# Altium footprint library WE-OLTI.PcbLib: 30 footprints (part 1 of 2)
Each footprint in its own frame and in the unit in brackets; x right, y up, seen from the top. Pads: shape width x height; smd on the part's side, far side on the other; paste and mask are expansions set on the pad; w line width, h text height; cw(c..) or ccw(c..) is an arc to the next point about the centre after c.
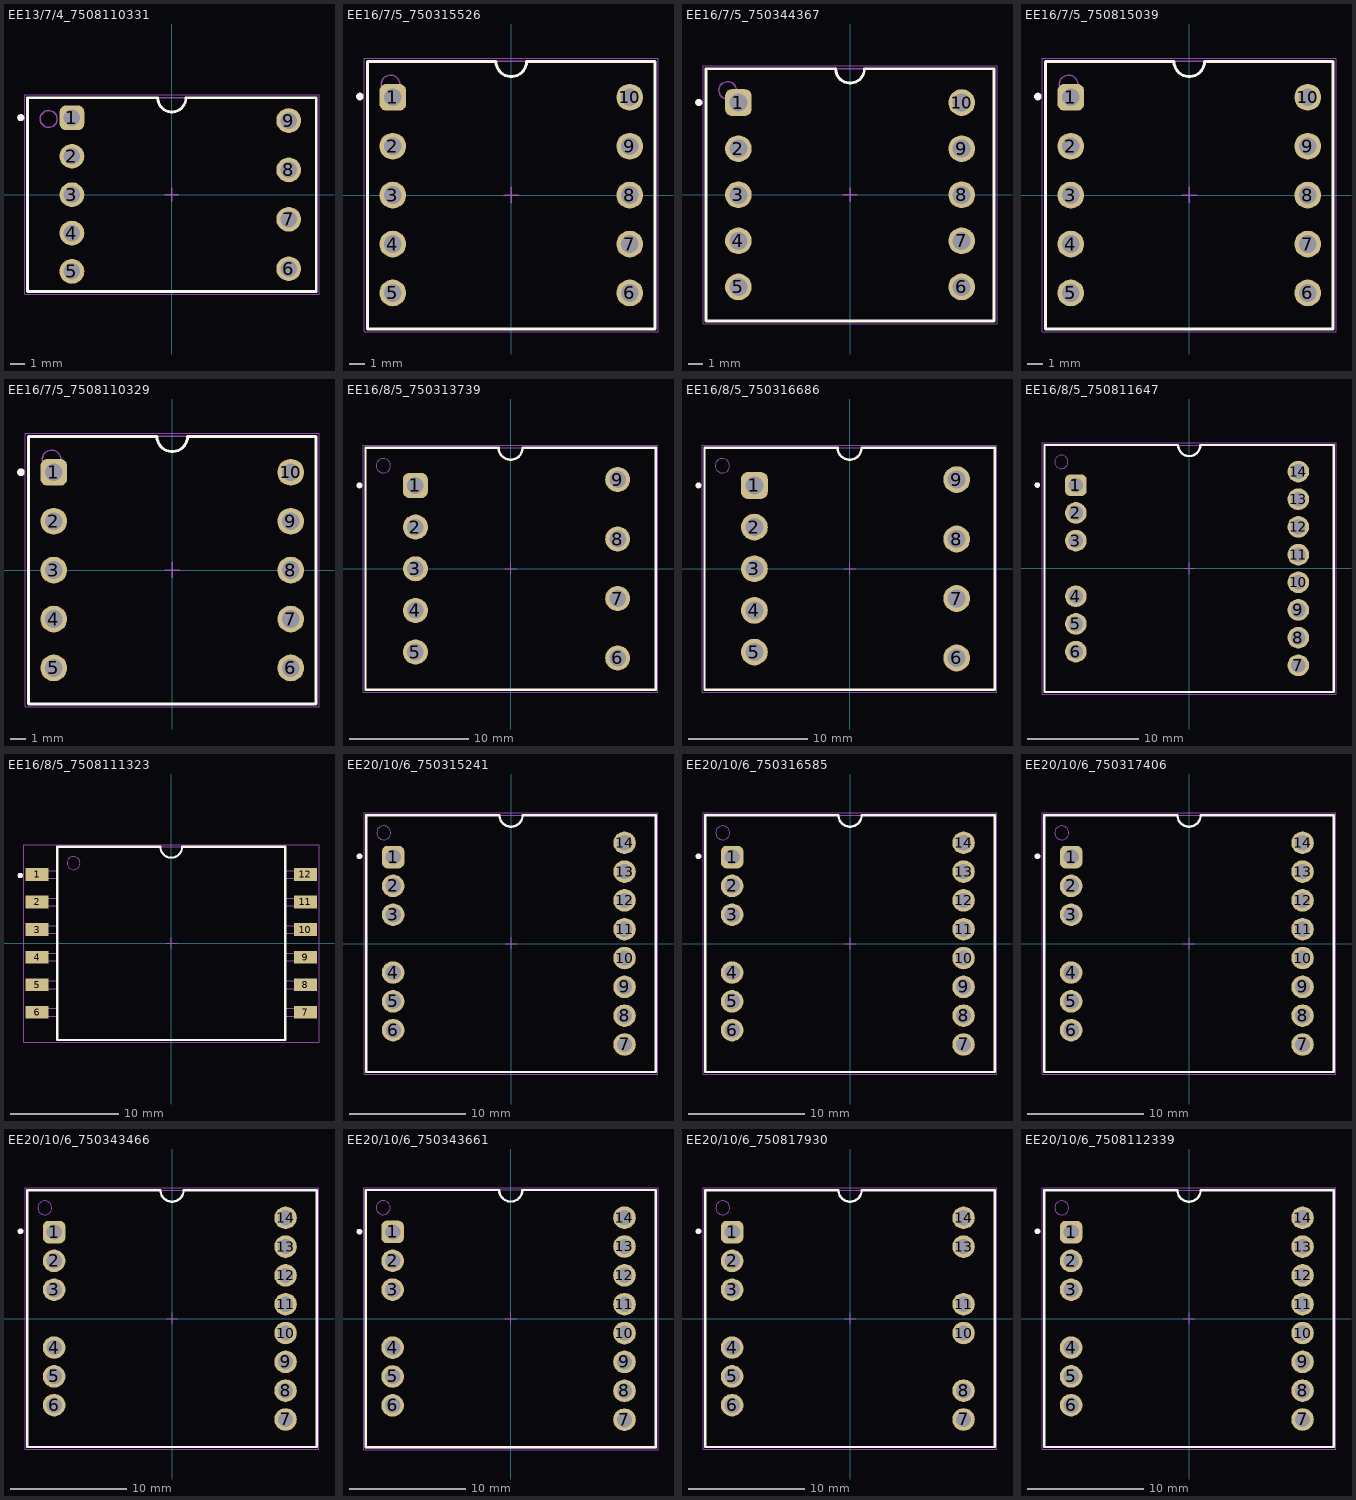
[diagram p0: the footprints below, top view; thin cyan lines are the x and y axes]

## EE13/7/4_7508110331 [mm] "Offline Flyback Transformer, EE13/7/4, THT"
height 10.54
pads (9):
  rrect50% 1.75x1.75 hole 1.17: 1(-7.075,5.44)
  round 1.75 hole 1.17: 2(-7.075,2.72) 3(-7.075,0) 4(-7.075,-2.72) 5(-7.075,-5.44) 6(8.275,-5.25) 7(8.275,-1.75) 8(8.275,1.75) 9(8.275,5.25)
Top Overlay:
  circle w0.25: c-10.7,5.45 r0.125
  lines w0.2: -10.225,-6.86 -10.225,6.86 -1,6.86 ccw(c0,6.86) 1,6.86 10.225,6.86 10.225,-6.86 -10.225,-6.86
Top Assembly:
  circle w0.1: c-8.725,5.36 r0.6
  lines w0.1: -10.225,-6.86 10.225,-6.86 10.225,6.86 -10.225,6.86 -10.225,-6.86
Top Designator:
  text ".Designator" at -3.647,-0.357 h1
Top 3D Body:
  circle w0.1: c-8.725,5.36 r0.6
  lines w0.1: -10.225,-6.86 -10.225,6.86 10.225,6.86 10.225,-6.86 -10.225,-6.86
Top Courtyard:
  lines w0.05: -10.425,-7.06 10.425,-7.06 10.425,7.06 -10.425,7.06 -10.425,-7.06
Top Component Center:
  lines w0.1: -0.5,0 0.5,0 ; 0,-0.5 0,0.5
3D body "Download_STP_070-5662_rev1.STEP": height 9.5, standoff -2.5, extent -9.75,-6.71 9.75,6.71

## EE16/7/5_750315526 [mm] "Offline Flyback Transformer, EE16/7/5, THT"
height 13.8
pads (10):
  rrect50% 1.75x1.75 hole 1.17: 1(-7.75,6.4)
  round 1.75 hole 1.17: 2(-7.75,3.2) 3(-7.75,0) 4(-7.75,-3.2) 5(-7.75,-6.4) 6(7.75,-6.4) 7(7.75,-3.2) 8(7.75,0) 9(7.75,3.2) 10(7.75,6.4)
Top Overlay:
  circle w0.25: c-9.9,6.45 r0.125
  lines w0.2: -9.4,-8.75 -9.4,8.75 -1,8.75 ccw(c0,8.75) 1,8.75 9.4,8.75 9.4,-8.75 -9.4,-8.75
Top Assembly:
  circle w0.1: c-7.9,7.25 r0.6
  lines w0.1: -9.4,-8.75 -9.4,8.75 9.4,8.75 9.4,-8.75 -9.4,-8.75
Top Designator:
  text ".Designator" at -3.647,-0.357 h1
Top 3D Body:
  circle w0.1: c-7.9,7.25 r0.6
  lines w0.1: -9.4,-8.75 9.4,-8.75 9.4,8.75 -9.4,8.75 -9.4,-8.75
Top Courtyard:
  lines w0.05: -9.6,-8.95 -9.6,8.95 9.6,8.95 9.6,-8.95 -9.6,-8.95
Top Component Center:
  lines w0.1: -0.5,0 0.5,0 ; 0,-0.5 0,0.5
3D body "Download_STP_070-5472_rev1.STEP": height 12.29, standoff -3.4, extent -9.107,-8.36 9.443,8.36

## EE16/7/5_750344367 [mm] "Offline Flyback Transformer, EE16/7/5, THT"
height 13.8
pads (10):
  rrect50% 1.85x1.85 hole 1.25: 1(-7.75,6.4)
  round 1.85 hole 1.25: 2(-7.75,3.2) 3(-7.75,0) 4(-7.75,-3.2) 5(-7.75,-6.4) 6(7.75,-6.4) 7(7.75,-3.2) 8(7.75,0) 9(7.75,3.2) 10(7.75,6.4)
Top Overlay:
  circle w0.25: c-10.5,6.4 r0.125
  lines w0.2: -10,-8.75 10,-8.75 10,8.75 1,8.75 cw(c0,8.75) -1,8.75 -10,8.75 -10,-8.75
Top Assembly:
  circle w0.1: c-8.5,7.25 r0.6
  lines w0.1: -10,-8.75 -10,8.75 10,8.75 10,-8.75 -10,-8.75
Top Designator:
  text ".Designator" at -3.647,-0.357 h1
Top 3D Body:
  circle w0.1: c-8.5,7.25 r0.6
  lines w0.1: -10,-8.75 10,-8.75 10,8.75 -10,8.75 -10,-8.75
Top Courtyard:
  lines w0.05: -10.2,-8.95 -10.2,8.95 10.2,8.95 10.2,-8.95 -10.2,-8.95
Top Component Center:
  lines w0.1: -0.5,0 0.5,0 ; 0,-0.5 0,0.5
3D body "Download_STP_070-6761_rev1.STEP": height 13.29, standoff -3.4, extent -9.385,-8.37 9.685,8.35

## EE16/7/5_750815039 [mm] "Offline Flyback Transformer, EE16/7/5, THT"
height 14.2
pads (10):
  rrect50% 1.75x1.75 hole 1.17: 1(-7.75,6.4)
  round 1.75 hole 1.17: 2(-7.75,3.2) 3(-7.75,0) 4(-7.75,-3.2) 5(-7.75,-6.4) 6(7.75,-6.4) 7(7.75,-3.2) 8(7.75,0) 9(7.75,3.2) 10(7.75,6.4)
Top Overlay:
  circle w0.25: c-9.9,6.45 r0.125
  lines w0.2: -9.4,-8.75 -9.4,8.75 -1,8.75 ccw(c0,8.75) 1,8.75 9.4,8.75 9.4,-8.75 -9.4,-8.75
Top Assembly:
  circle w0.1: c-7.9,7.25 r0.6
  lines w0.1: -9.4,-8.75 -9.4,8.75 9.4,8.75 9.4,-8.75 -9.4,-8.75
Top Designator:
  text ".Designator" at -3.647,-0.357 h1
Top 3D Body:
  circle w0.1: c-7.9,7.25 r0.6
  lines w0.1: -9.4,-8.75 9.4,-8.75 9.4,8.75 -9.4,8.75 -9.4,-8.75
Top Courtyard:
  lines w0.05: -9.6,-8.95 -9.6,8.95 9.6,8.95 9.6,-8.95 -9.6,-8.95
Top Component Center:
  lines w0.1: -0.5,0 0.5,0 ; 0,-0.5 0,0.5
3D body "Download_STP_070-5472_rev1 (2).STEP": height 12.29, standoff -3.4, extent -9.107,-8.36 9.443,8.36

## EE16/7/5_7508110329 [mm] "Offline Flyback Transformer, EE16/7/5, THT"
height 13.31
pads (10):
  rrect50% 1.75x1.75 hole 1.17: 1(-7.75,6.4)
  round 1.75 hole 1.17: 2(-7.75,3.2) 3(-7.75,0) 4(-7.75,-3.2) 5(-7.75,-6.4) 6(7.75,-6.4) 7(7.75,-3.2) 8(7.75,0) 9(7.75,3.2) 10(7.75,6.4)
Top Overlay:
  circle w0.25: c-9.9,6.4 r0.125
  lines w0.2: -9.4,-8.75 -9.4,8.75 -1,8.75 ccw(c0,8.75) 1,8.75 9.4,8.75 9.4,-8.75 -9.4,-8.75
Top Assembly:
  circle w0.1: c-7.9,7.25 r0.6
  lines w0.1: -9.4,-8.75 -9.4,8.75 9.4,8.75 9.4,-8.75 -9.4,-8.75
Top Designator:
  text ".Designator" at -3.647,-0.357 h1
Top 3D Body:
  circle w0.1: c-7.9,7.25 r0.6
  lines w0.1: -9.4,-8.75 9.4,-8.75 9.4,8.75 -9.4,8.75 -9.4,-8.75
Top Courtyard:
  lines w0.05: -9.6,-8.95 -9.6,8.95 9.6,8.95 9.6,-8.95 -9.6,-8.95
Top Component Center:
  lines w0.1: -0.5,0 0.5,0 ; 0,-0.5 0,0.5
3D body "Download_STP_070-5472_rev1 (1).STEP": height 12.29, standoff -3.4, extent -9.107,-8.36 9.443,8.36

## EE16/8/5_750313739 [mm] "Offline Flyback Transformer, EE16/8/5, THT"
height 16
pads (9):
  rrect50% 2.1x2.1 hole 1.4: 1(-8,7)
  round 2.1 hole 1.4: 2(-8,3.5) 3(-8,0) 4(-8,-3.5) 5(-8,-7) 6(9,-7.5) 7(9,-2.5) 8(9,2.5) 9(9,7.5)
Top Overlay:
  circle w0.25: c-12.7,7 r0.125
  lines w0.2: -12.19,-10.16 -12.19,10.16 -1,10.16 ccw(c0,10.16) 1,10.16 12.19,10.16 12.19,-10.16 -12.19,-10.16
Top Assembly:
  circle w0.1: c-10.69,8.66 r0.6
  lines w0.1: -12.19,-10.16 -12.19,10.16 12.19,10.16 12.19,-10.16 -12.19,-10.16
Top Designator:
  text ".Designator" at -3.647,-0.357 h1
Top 3D Body:
  circle w0.1: c-10.69,8.66 r0.6
  lines w0.1: -12.19,-10.16 12.19,-10.16 12.19,10.16 -12.19,10.16 -12.19,-10.16
Top Courtyard:
  lines w0.05: -12.39,-10.36 -12.39,10.36 12.39,10.36 12.39,-10.36 -12.39,-10.36
Top Component Center:
  lines w0.1: -0.5,0 0.5,0 ; 0,-0.5 0,0.5
3D body "Download_STP_070-5280_rev1.STEP": height 15, standoff -3.4, extent -11.845,-9.94 11.965,9.86

## EE16/8/5_750316686 [mm] "Offline Flyback Transformer, EE16/8/5, THT"
height 16
pads (9):
  rrect50% 2.25x2.25 hole 1.5: 1(-8,7)
  round 2.25 hole 1.5: 2(-8,3.5) 3(-8,0) 4(-8,-3.5) 5(-8,-7) 6(9,-7.5) 7(9,-2.5) 8(9,2.5) 9(9,7.5)
Top Overlay:
  circle w0.25: c-12.7,7 r0.125
  lines w0.2: -12.19,-10.16 12.19,-10.16 12.19,10.16 1,10.16 cw(c0,10.16) -1,10.16 -12.19,10.16 -12.19,-10.16
Top Assembly:
  circle w0.1: c-10.69,8.66 r0.6
  lines w0.1: -12.19,-10.16 12.19,-10.16 12.19,10.16 -12.19,10.16 -12.19,-10.16
Top Designator:
  text ".Designator" at -3.647,-0.357 h1
Top 3D Body:
  circle w0.1: c-10.69,8.66 r0.6
  lines w0.1: -12.19,-10.16 -12.19,10.16 12.19,10.16 12.19,-10.16 -12.19,-10.16
Top Courtyard:
  lines w0.05: -12.39,-10.36 12.39,-10.36 12.39,10.36 -12.39,10.36 -12.39,-10.36
Top Component Center:
  lines w0.1: -0.5,0 0.5,0 ; 0,-0.5 0,0.5
3D body "Download_STP_070-5280_rev1 (1).STEP": height 15, standoff -3.4, extent -11.905,-9.8 11.905,10

## EE16/8/5_750811647 [mm] "Offline Flyback Transformer, EE16/8/5, THT"
height 16
pads (14):
  rrect50% 1.95x1.95 hole 1.32: 1(-10.19,7.48)
  round 1.95 hole 1.32: 2(-10.19,4.99) 3(-10.19,2.5) 4(-10.19,-2.5) 5(-10.19,-4.99) 6(-10.19,-7.48) 7(9.81,-8.715) 8(9.81,-6.225) 9(9.81,-3.735) 10(9.81,-1.245) 11(9.81,1.245) 12(9.81,3.735) 13(9.81,6.225) 14(9.81,8.715)
Top Overlay:
  circle w0.25: c-13.65,7.5 r0.125
  lines w0.2: -13,-11.1 13,-11.1 13,11.1 1,11.1 cw(c0,11.1) -1,11.1 -13,11.1 -13,-11.1
Top Assembly:
  circle w0.1: c-11.5,9.575 r0.6
  lines w0.1: -13,-11.15 -13,11.1 13,11.1 13,-11.15 -13,-11.15
Top Designator:
  text ".Designator" at -3.647,-0.357 h1
Top 3D Body:
  circle w0.1: c-11.5,9.575 r0.6
  lines w0.1: -13,-11.15 13,-11.15 13,11.1 -13,11.1 -13,-11.15
Top Courtyard:
  lines w0.05: -13.2,-11.3 13.2,-11.3 13.2,11.3 -13.2,11.3 -13.2,-11.3
Top Component Center:
  lines w0.1: -0.5,0 0.5,0 ; 0,-0.5 0,0.5
3D body "Download_STP_070-5643_rev1.STEP": height 15.45, standoff -3.46, extent -12.45,-10.62 12.45,10.5

## EE16/8/5_7508111323 [mm] "Offline Flyback Transformer, EE16/8/5, SMT"
height 13.8
pads (12):
  rect 2.1x1.17 smd: 1(-12.36,6.35) 2(-12.36,3.81) 3(-12.36,1.27) 4(-12.36,-1.27) 5(-12.36,-3.81) 6(-12.36,-6.35) 7(12.36,-6.35) 8(12.36,-3.81) 9(12.36,-1.27) 10(12.36,1.27) 11(12.36,3.81) 12(12.36,6.35)
Top Overlay:
  circle w0.25: c-13.9,6.25 r0.125
  lines w0.2: -10.5,-8.89 10.5,-8.89 10.5,8.89 1,8.89 cw(c0,8.89) -1,8.89 -10.5,8.89 -10.5,-8.89
Top Assembly:
  circle w0.1: c-9,7.39 r0.6
  lines w0.1: -10.5,-6.7 -12.954,-6.7 -12.954,-6 -10.5,-6 ; -10.5,-4.16 -12.954,-4.16 -12.954,-3.46 -10.5,-3.46 ; -10.5,-1.62 -12.954,-1.62 -12.954,-0.92 -10.5,-0.92 ; -10.5,0.92 -12.954,0.92 -12.954,1.62 -10.5,1.62 ; -10.5,3.46 -12.954,3.46 -12.954,4.16 -10.5,4.16 ; -10.5,6 -12.954,6 -12.954,6.7 -10.5,6.7 ; 10.5,-6.7 12.954,-6.7 12.954,-6 10.5,-6 ; 10.5,-4.16 12.954,-4.16 12.954,-3.46 10.5,-3.46 ; 10.5,-1.62 12.954,-1.62 12.954,-0.92 10.5,-0.92 ; 10.5,0.92 12.954,0.92 12.954,1.62 10.5,1.62 ; 10.5,3.46 12.954,3.46 12.954,4.16 10.5,4.16 ; 10.5,6 12.954,6 12.954,6.7 10.5,6.7 ; -10.5,-8.89 -10.5,8.89 10.5,8.89 10.5,-8.89 -10.5,-8.89
Top Designator:
  text ".Designator" at -3.647,-0.357 h1
Top 3D Body:
  circle w0.1: c-9,7.39 r0.6
  lines w0.1: -10.5,-6.7 -12.954,-6.7 -12.954,-6 -10.5,-6 ; -10.5,-4.16 -12.954,-4.16 -12.954,-3.46 -10.5,-3.46 ; -10.5,-1.62 -12.954,-1.62 -12.954,-0.92 -10.5,-0.92 ; -10.5,0.92 -12.954,0.92 -12.954,1.62 -10.5,1.62 ; -10.5,3.46 -12.954,3.46 -12.954,4.16 -10.5,4.16 ; -10.5,6 -12.954,6 -12.954,6.7 -10.5,6.7 ; 10.5,-6.7 12.954,-6.7 12.954,-6 10.5,-6 ; 10.5,-4.16 12.954,-4.16 12.954,-3.46 10.5,-3.46 ; 10.5,-1.62 12.954,-1.62 12.954,-0.92 10.5,-0.92 ; 10.5,0.92 12.954,0.92 12.954,1.62 10.5,1.62 ; 10.5,3.46 12.954,3.46 12.954,4.16 10.5,4.16 ; 10.5,6 12.954,6 12.954,6.7 10.5,6.7 ; -10.5,-8.89 10.5,-8.89 10.5,8.89 -10.5,8.89 -10.5,-8.89
Top Courtyard:
  lines w0.05: -13.61,-9.09 -13.61,9.09 13.61,9.09 13.61,-9.09 -13.61,-9.09
Top Component Center:
  lines w0.1: -0.5,0 0.5,0 ; 0,-0.5 0,0.5
3D body "Download_STP_070-5642_rev1.STEP": height 13.54, standoff 0.05, extent -12.88,-8.53 12.88,8.5

## EE20/10/6_750315241 [mm] "Offline Flyback Transformer, EE20/10/6, THT"
height 16
pads (14):
  rrect50% 1.95x1.95 hole 1.32: 1(-10.19,7.48)
  round 1.95 hole 1.32: 2(-10.19,4.99) 3(-10.19,2.5) 4(-10.19,-2.5) 5(-10.19,-4.99) 6(-10.19,-7.48) 7(9.81,-8.715) 8(9.81,-6.225) 9(9.81,-3.735) 10(9.81,-1.245) 11(9.81,1.245) 12(9.81,3.735) 13(9.81,6.225) 14(9.81,8.715)
Top Overlay:
  circle w0.25: c-13.1,7.55 r0.125
  lines w0.2: -12.5,-11.1 12.5,-11.1 12.5,11.1 1,11.1 cw(c0,11.1) -1,11.1 -12.5,11.1 -12.5,-11.1
Top Assembly:
  circle w0.1: c-11,9.575 r0.6
  lines w0.1: -12.5,-11.1 -12.5,11.1 12.5,11.1 12.5,-11.1 -12.5,-11.1
Top Designator:
  text ".Designator" at -3.647,-0.357 h1
Top 3D Body:
  circle w0.1: c-11,9.575 r0.6
  lines w0.1: -12.5,-11.1 12.5,-11.1 12.5,11.1 -12.5,11.1 -12.5,-11.1
Top Courtyard:
  lines w0.05: -12.7,-11.3 12.7,-11.3 12.7,11.3 -12.7,11.3 -12.7,-11.3
Top Component Center:
  lines w0.1: -0.5,0 0.5,0 ; 0,-0.5 0,0.5
3D body "Download_STP_070-5643_rev1 (1).STEP": height 15.45, standoff -3.46, extent -12.45,-10.62 12.45,10.5

## EE20/10/6_750316585 [mm] "Offline Flyback Transformer, EE20/10/6, THT"
height 16
pads (14):
  rrect50% 1.95x1.95 hole 1.32: 1(-10.19,7.48)
  round 1.95 hole 1.32: 2(-10.19,4.99) 3(-10.19,2.5) 4(-10.19,-2.5) 5(-10.19,-4.99) 6(-10.19,-7.48) 7(9.81,-8.715) 8(9.81,-6.225) 9(9.81,-3.735) 10(9.81,-1.245) 11(9.81,1.245) 12(9.81,3.735) 13(9.81,6.225) 14(9.81,8.715)
Top Overlay:
  circle w0.25: c-13.1,7.55 r0.125
  lines w0.2: -12.5,-11.1 12.5,-11.1 12.5,11.1 1,11.1 cw(c0,11.1) -1,11.1 -12.5,11.1 -12.5,-11.1
Top Assembly:
  circle w0.1: c-11,9.575 r0.6
  lines w0.1: -12.5,-11.1 -12.5,11.1 12.5,11.1 12.5,-11.1 -12.5,-11.1
Top Designator:
  text ".Designator" at -3.647,-0.357 h1
Top 3D Body:
  circle w0.1: c-11,9.575 r0.6
  lines w0.1: -12.5,-11.1 12.5,-11.1 12.5,11.1 -12.5,11.1 -12.5,-11.1
Top Courtyard:
  lines w0.05: -12.7,-11.3 12.7,-11.3 12.7,11.3 -12.7,11.3 -12.7,-11.3
Top Component Center:
  lines w0.1: -0.5,0 0.5,0 ; 0,-0.5 0,0.5
3D body "Download_STP_070-5643_rev1 (2).STEP": height 15.45, standoff -3.46, extent -12.45,-10.62 12.45,10.5

## EE20/10/6_750317406 [mm] "Offline Flyback Transformer, EE20/10/6, THT"
height 16
pads (14):
  rrect50% 1.95x1.95 hole 1.32: 1(-10.19,7.48)
  round 1.95 hole 1.32: 2(-10.19,4.99) 3(-10.19,2.5) 4(-10.19,-2.5) 5(-10.19,-4.99) 6(-10.19,-7.48) 7(9.81,-8.715) 8(9.81,-6.225) 9(9.81,-3.735) 10(9.81,-1.245) 11(9.81,1.245) 12(9.81,3.735) 13(9.81,6.225) 14(9.81,8.715)
Top Overlay:
  circle w0.25: c-13.1,7.55 r0.125
  lines w0.2: -12.5,-11.1 -12.5,11.1 -1,11.1 ccw(c0,11.1) 1,11.1 12.5,11.1 12.5,-11.1 -12.5,-11.1
Top Assembly:
  circle w0.1: c-11,9.575 r0.6
  lines w0.1: -12.5,-11.1 12.5,-11.1 12.5,11.1 -12.5,11.1 -12.5,-11.1
Top Designator:
  text ".Designator" at -3.647,-0.357 h1
Top 3D Body:
  circle w0.1: c-11,9.575 r0.6
  lines w0.1: -12.5,-11.1 -12.5,11.1 12.5,11.1 12.5,-11.1 -12.5,-11.1
Top Courtyard:
  lines w0.05: -12.7,-11.3 -12.7,11.3 12.7,11.3 12.7,-11.3 -12.7,-11.3
Top Component Center:
  lines w0.1: -0.5,0 0.5,0 ; 0,-0.5 0,0.5
3D body "Download_STP_070-5643_rev1 (3).STEP": height 15.45, standoff -3.46, extent -12.45,-10.62 12.45,10.5

## EE20/10/6_750343466 [mm] "Offline Flyback Transformer, EE20/10/6, THT"
height 16.5
pads (14):
  rrect50% 1.95x1.95 hole 1.32: 1(-10.19,7.48)
  round 1.95 hole 1.32: 2(-10.19,4.99) 3(-10.19,2.5) 4(-10.19,-2.5) 5(-10.19,-4.99) 6(-10.19,-7.48) 7(9.81,-8.715) 8(9.81,-6.225) 9(9.81,-3.735) 10(9.81,-1.245) 11(9.81,1.245) 12(9.81,3.735) 13(9.81,6.225) 14(9.81,8.715)
Top Overlay:
  circle w0.25: c-13.1,7.55 r0.125
  lines w0.2: -12.5,-11.1 12.5,-11.1 12.5,11.1 1,11.1 cw(c0,11.1) -1,11.1 -12.5,11.1 -12.5,-11.1
Top Assembly:
  circle w0.1: c-11,9.575 r0.6
  lines w0.1: -12.5,-11.1 -12.5,11.1 12.5,11.1 12.5,-11.1 -12.5,-11.1
Top Designator:
  text ".Designator" at -3.647,-0.357 h1
Top 3D Body:
  circle w0.1: c-11,9.575 r0.6
  lines w0.1: -12.5,-11.1 12.5,-11.1 12.5,11.1 -12.5,11.1 -12.5,-11.1
Top Courtyard:
  lines w0.05: -12.7,-11.3 12.7,-11.3 12.7,11.3 -12.7,11.3 -12.7,-11.3
Top Component Center:
  lines w0.1: -0.5,0 0.5,0 ; 0,-0.5 0,0.5
3D body "Download_STP_070-5643_rev1 (4).STEP": height 15.45, standoff -3.46, extent -12.45,-10.62 12.45,10.5

## EE20/10/6_750343661 [mm] "Offline Flyback Transformer, EE20/10/6, THT"
height 16
pads (14):
  rrect50% 1.95x1.95 hole 1.32: 1(-10.19,7.48)
  round 1.95 hole 1.32: 2(-10.19,4.99) 3(-10.19,2.5) 4(-10.19,-2.5) 5(-10.19,-4.99) 6(-10.19,-7.48) 7(9.81,-8.715) 8(9.81,-6.225) 9(9.81,-3.735) 10(9.81,-1.245) 11(9.81,1.245) 12(9.81,3.735) 13(9.81,6.225) 14(9.81,8.715)
Top Overlay:
  circle w0.25: c-13.05,7.5 r0.125
  lines w0.2: -12.5,-11.1 -12.5,11.1 -1,11.1 ccw(c0,11.1) 1,11.1 12.5,11.1 12.5,-11.1 -12.5,-11.1
Top Assembly:
  circle w0.1: c-11,9.575 r0.6
  lines w0.1: -12.5,-11.1 -12.5,11.1 12.5,11.1 12.5,-11.1 -12.5,-11.1
Top Designator:
  text ".Designator" at -3.647,-0.357 h1
Top 3D Body:
  circle w0.1: c-11,9.575 r0.6
  lines w0.1: -12.5,-11.15 12.5,-11.15 12.5,11.1 -12.5,11.1 -12.5,-11.15
Top Courtyard:
  lines w0.05: -12.7,-11.3 12.7,-11.3 12.7,11.3 -12.7,11.3 -12.7,-11.3
Top Component Center:
  lines w0.1: -0.5,0 0.5,0 ; 0,-0.5 0,0.5
3D body "Download_STP_070-5643_rev1 (5).STEP": height 15.45, standoff -3.46, extent -12.45,-10.62 12.45,10.5

## EE20/10/6_750817930 [mm] "Offline Flyback Transformer, EE20/10/6, THT"
height 16
pads (12):
  rrect50% 1.95x1.95 hole 1.32: 1(-10.19,7.48)
  round 1.95 hole 1.32: 2(-10.19,4.99) 3(-10.19,2.5) 4(-10.19,-2.5) 5(-10.19,-4.99) 6(-10.19,-7.48) 7(9.81,-8.715) 8(9.81,-6.225) 10(9.81,-1.245) 11(9.81,1.245) 13(9.81,6.225) 14(9.81,8.715)
Top Overlay:
  circle w0.25: c-13.1,7.55 r0.125
  lines w0.2: -12.5,-11.1 -12.5,11.1 -1,11.1 ccw(c0,11.1) 1,11.1 12.5,11.1 12.5,-11.1 -12.5,-11.1
Top Assembly:
  circle w0.1: c-11,9.575 r0.6
  lines w0.1: -12.5,-11.1 12.5,-11.1 12.5,11.1 -12.5,11.1 -12.5,-11.1
Top Designator:
  text ".Designator" at -3.647,-0.357 h1
Top 3D Body:
  circle w0.1: c-11,9.575 r0.6
  lines w0.1: -12.5,-11.1 -12.5,11.1 12.5,11.1 12.5,-11.1 -12.5,-11.1
Top Courtyard:
  lines w0.05: -12.7,-11.3 -12.7,11.3 12.7,11.3 12.7,-11.3 -12.7,-11.3
Top Component Center:
  lines w0.1: -0.5,0 0.5,0 ; 0,-0.5 0,0.5
3D body "070-5643_MP9-12.STEP": height 15.45, standoff -3.46, extent -12.45,-10.62 12.45,10.5

## EE20/10/6_7508112339 [mm] "Offline Flyback Transformer, EE20/10/6, THT"
height 16.5
pads (14):
  rrect50% 1.95x1.95 hole 1.32: 1(-10.19,7.48)
  round 1.95 hole 1.32: 2(-10.19,4.99) 3(-10.19,2.5) 4(-10.19,-2.5) 5(-10.19,-4.99) 6(-10.19,-7.48) 7(9.81,-8.715) 8(9.81,-6.225) 9(9.81,-3.735) 10(9.81,-1.245) 11(9.81,1.245) 12(9.81,3.735) 13(9.81,6.225) 14(9.81,8.715)
Top Overlay:
  circle w0.25: c-13.1,7.55 r0.125
  lines w0.2: -12.5,-11.1 12.5,-11.1 12.5,11.1 1,11.1 cw(c0,11.1) -1,11.1 -12.5,11.1 -12.5,-11.1
Top Assembly:
  circle w0.1: c-11,9.575 r0.6
  lines w0.1: -12.5,-11.1 -12.5,11.1 12.5,11.1 12.5,-11.1 -12.5,-11.1
Top Designator:
  text ".Designator" at -3.647,-0.357 h1
Top 3D Body:
  circle w0.1: c-11,9.575 r0.6
  lines w0.1: -12.5,-11.1 12.5,-11.1 12.5,11.1 -12.5,11.1 -12.5,-11.1
Top Courtyard:
  lines w0.05: -12.7,-11.3 12.7,-11.3 12.7,11.3 -12.7,11.3 -12.7,-11.3
Top Component Center:
  lines w0.1: -0.5,0 0.5,0 ; 0,-0.5 0,0.5
3D body "Download_STP_070-5643_rev1 (6).STEP": height 15.45, standoff -3.46, extent -12.45,-10.62 12.45,10.5